# Altium integrated library LTC2990CMS_PBF.IntLib: 1 symbol
Pins are listed as number, name and electrical type; pins without a type are passive.

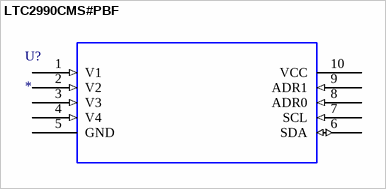
[diagram p0: symbol LTC2990CMS#PBF]

## LTC2990CMS#PBF
designator U?
IC, SUPERVISORY, 1.1mA, 5.5V, MSOP10; No; IC, SUPERVISORY, 1.1mA, 5.5V, MSOP10; No. of Supervisors / Monitors:4; Supply Voltage Range:2.9V to 5.5V; Digital IC Case Style:MSOP; No. of Pins:10; Supply Current:1.1mA; Delay Time:46ms; Operating Temperature Ra; MF: Analog Devices; MP: LTC2990CMS#PBF; SnapEDA_Link: https://www.snapeda.com/parts/LTC2990CMS%23PBF/Analog+Devices/view-part/?ref=snap; Package: MSOP-10 Linear Technology; Value: *; Check_prices: https://www.snapeda.com/parts/LTC2990CMS%23PBF/Analog+Devices/view-part/?ref=eda
footprint MSOP-10_MS
pins: 1 V1 (in), 2 V2 (in), 3 V3 (in), 4 V4 (in), 5 GND (power), 6 SDA (io), 7 SCL (in), 8 ADR0 (in), 9 ADR1 (in), 10 VCC (power)